# Altium schematic symbol library carrier.SchLib: 14 symbols
Pins are listed as number, name and electrical type; pins without a type are passive.

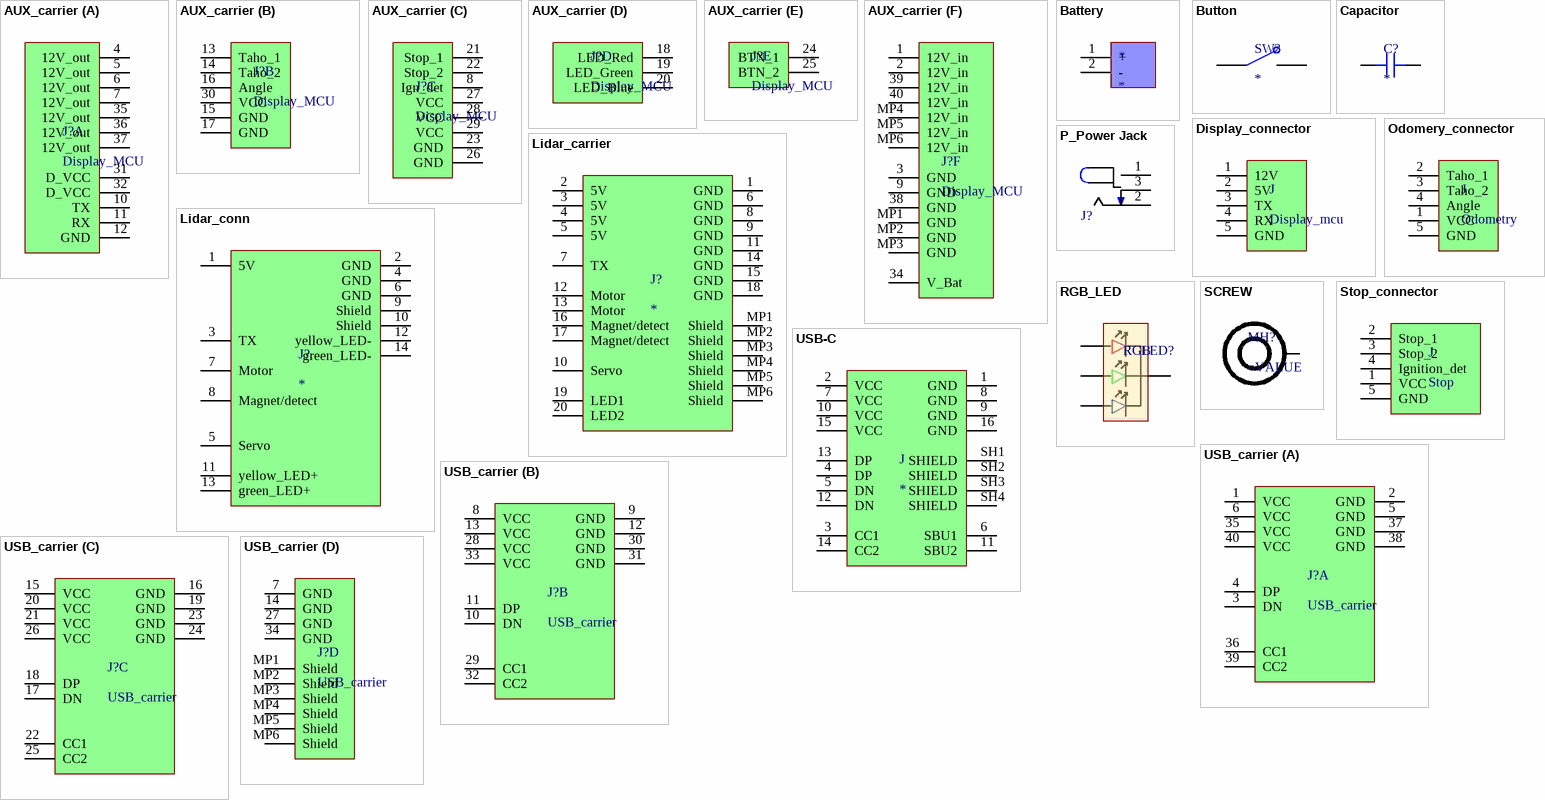
[diagram p0: symbols AUX_carrier to USB_carrier]

## AUX_carrier
designator J?, comment Display_MCU
footprint 2167000409
part A pins: 4 12V_out, 5 12V_out, 6 12V_out, 7 12V_out, 10 TX, 11 RX, 12 GND, 31 D_VCC, 32 D_VCC, 35 12V_out, 36 12V_out, 37 12V_out
part B pins: 13 Taho_1, 14 Taho_2, 15 GND, 16 Angle, 17 GND, 30 VCC
part C pins: 8 Ign_det, 21 Stop_1, 22 Stop_2, 23 GND, 26 GND, 27 VCC, 28 VCC, 29 VCC
part D pins: 18 LED_Red, 19 LED_Green, 20 LED_Blue
part E pins: 24 BTN_1, 25 BTN_2
part F pins: 1 12V_in, 2 12V_in, 3 GND, 9 GND, 34 V_Bat, 38 GND, 39 12V_in, 40 12V_in, MP1 GND, MP2 GND, MP3 GND, MP4 12V_in, MP5 12V_in, MP6 12V_in

## Battery
designator *
footprint BAT_BH-25C-1
pins: 1 +, 2 -

## Button
designator SW?
footprint COM10302; pin to pad 2>3
pins: 1, 2

## Capacitor
designator C?
SMT Capacitor; Value: *
footprint CAP 0603 (Chip Resistor, 2-Leads, Body 1.60x0.80mm)
pins: 1, 2

## Display_connector
designator J, comment Display_mcu
footprint SHDRRA5W64P0X250_1X5_1490X1150X610P
pins: 1 12V, 2 5V, 3 TX, 4 RX, 5 GND

## Lidar_carrier
designator J?
footprint 2167000209
pins: 1 GND, 2 5V, 3 5V, 4 5V, 5 5V, 6 GND, 7 TX, 8 GND, 9 GND, 10 Servo, 11 GND, 12 Motor, 13 Motor, 14 GND, 15 GND, 16 Magnet/detect, 17 Magnet/detect, 18 GND, 19 LED1, 20 LED2, MP1 Shield, MP2 Shield, MP3 Shield, MP4 Shield, MP5 Shield, MP6 Shield

## Lidar_conn
designator J?
footprint MTJ88ARX1FSMLG
pins: 1 5V, 2 GND, 3 TX, 4 GND, 5 Servo, 6 GND, 7 Motor, 8 Magnet/detect, 9 Shield, 10 Shield, 11 yellow_LED+, 12 yellow_LED-, 13 green_LED+, 14 green_LED-

## Odomery_connector
designator J, comment Odometry
footprint SHDRRA5W64P0X250_1X5_1490X1150X610P
pins: 1 VCC, 2 Taho_1, 3 Taho_2, 4 Angle, 5 GND

## P_Power Jack
designator J?, comment Power Jack  (value not drawn)
Power Barrel Connector Jack 2.10mm ID (0.083"), 5.50mm OD (0.217") Through Hole, Right Angle; MFR Part #: PJ-102A; Value: CONN PWR JACK 2X5.5MM SOLDER; Digikey Link: https://www.digikey.com/product-detail/en/PJ-102A/CP-102A-ND/275425/?itemSeq=304982367; LCSC Part#: C136744; Type: Extended
footprint Power_Jack
pins: 1 (power), 2 (power), 3 (power)

## RGB_LED
designator LED?, comment RGB
MFR Part #: NCD1206B1; Type: Extended; LCSC Part#: C130717; Datasheet: https://datasheet.lcsc.com/lcsc/2008201033_Foshan-NationStar-Optoelectronics-NCD1206B1_C130717.pdf
footprint LED_QBL8RGB60D0-2897
pins: 1 R, 2 Catode, 3 G, 4 B

## SCREW
designator MH?
footprint SCREW_M3.0 (M3 Screw Close FIt)
pins: 1

## Stop_connector
designator J, comment Stop
footprint SHDRRA5W64P0X250_1X5_1490X1150X610P
pins: 1 VCC, 2 Stop_1, 3 Stop_2, 4 Ignition_det, 5 GND

## USB-C
designator J
footprint AMPHENOL_GSB1C211110DS1HR
pins: 1 GND, 2 VCC, 3 CC1, 4 DP, 5 DN, 6 SBU1, 7 VCC, 8 GND, 9 GND, 10 VCC, 11 SBU2, 12 DN, 13 DP, 14 CC2, 15 VCC, 16 GND, SH1 SHIELD, SH2 SHIELD, SH3 SHIELD, SH4 SHIELD

## USB_carrier
designator J?
footprint 2167000409
part A pins: 1 VCC, 2 GND, 3 DN, 4 DP, 5 GND, 6 VCC, 35 VCC, 36 CC1, 37 GND, 38 GND, 39 CC2, 40 VCC
part B pins: 8 VCC, 9 GND, 10 DN, 11 DP, 12 GND, 13 VCC, 28 VCC, 29 CC1, 30 GND, 31 GND, 32 CC2, 33 VCC
part C pins: 15 VCC, 16 GND, 17 DN, 18 DP, 19 GND, 20 VCC, 21 VCC, 22 CC1, 23 GND, 24 GND, 25 CC2, 26 VCC
part D pins: 7 GND, 14 GND, 27 GND, 34 GND, MP1 Shield, MP2 Shield, MP3 Shield, MP4 Shield, MP5 Shield, MP6 Shield